# Altium footprint library Table Clock.PcbLib: 28 footprints (part 2 of 2)
Each footprint in its own frame and in the unit in brackets; x right, y up, seen from the top. Pads: shape width x height; smd on the part's side, far side on the other; paste and mask are expansions set on the pad; w line width, h text height; cw(c..) or ccw(c..) is an arc to the next point about the centre after c.
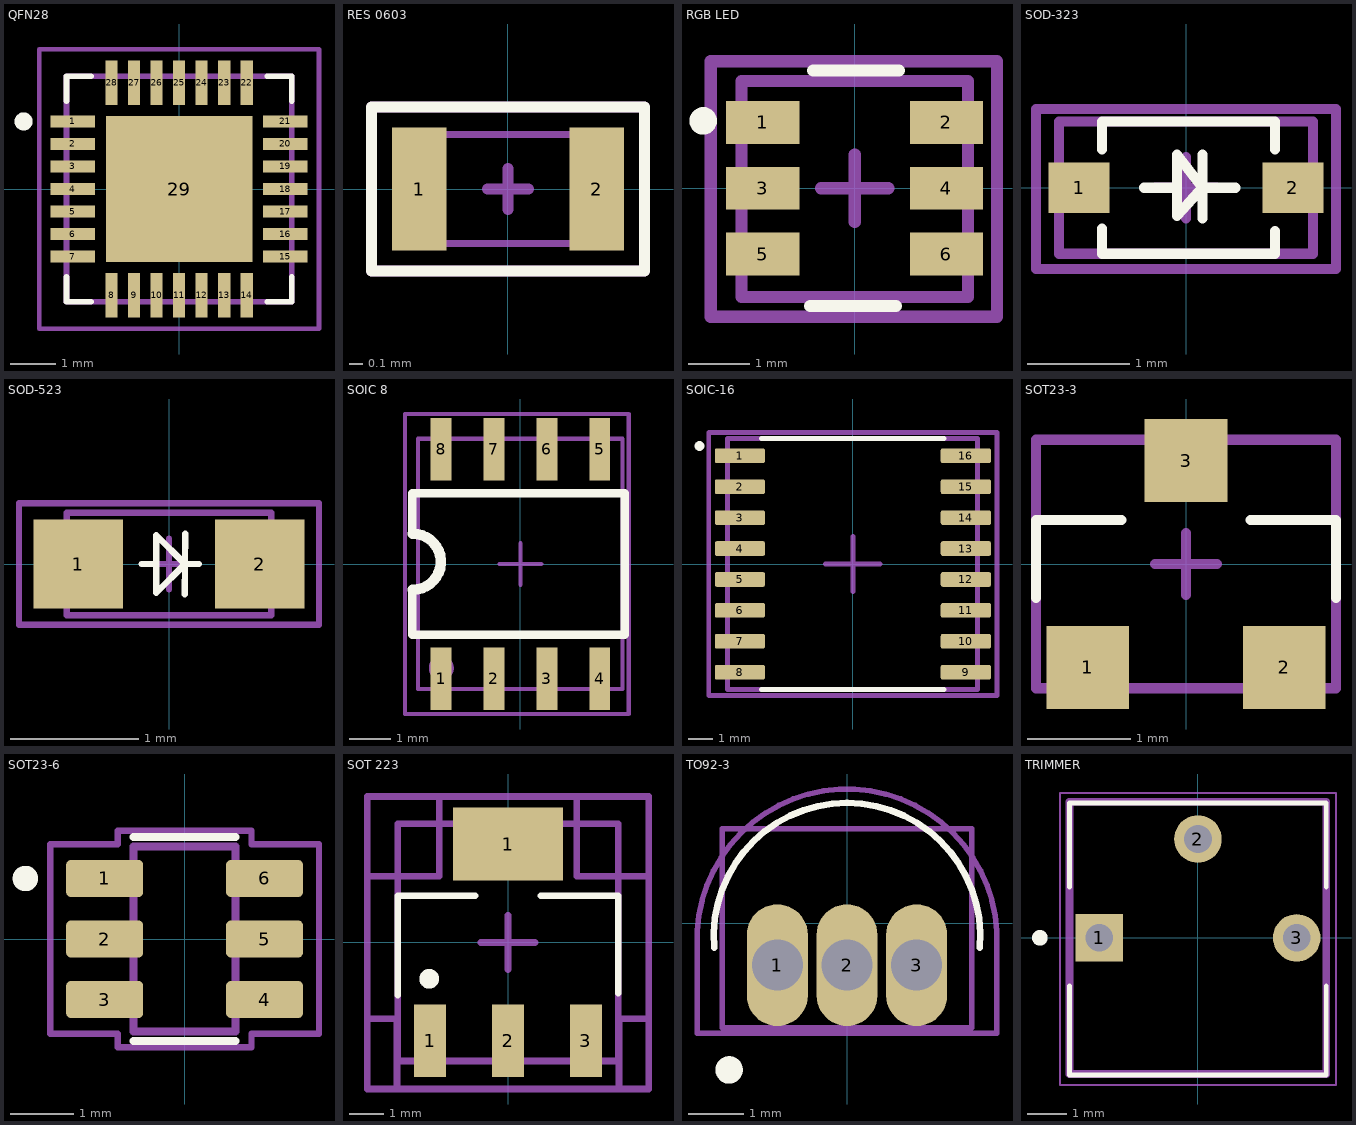
[diagram p1: the footprints below, top view; thin cyan lines are the x and y axes]

## QFN28 [mm]
pads (29):
  rect 0.99x0.27 smd: 1(-2.36,1.5) 2(-2.36,1) 3(-2.36,0.5) 4(-2.36,0) 5(-2.36,-0.5) 6(-2.36,-1) 7(-2.36,-1.5) 15(2.36,-1.5) 16(2.36,-1) 17(2.36,-0.5) 18(2.36,0) 19(2.36,0.5) 20(2.36,1) 21(2.36,1.5)
  rect 0.27x0.99 smd: 8(-1.5,-2.36) 9(-1,-2.36) 10(-0.5,-2.36) 11(0,-2.36) 12(0.5,-2.36) 13(1,-2.36) 14(1.5,-2.36) 22(1.5,2.36) 23(1,2.36) 24(0.5,2.36) 25(0,2.36) 26(-0.5,2.36) 27(-1,2.36) 28(-1.5,2.36)
  rect 3.25x3.25 smd paste-0.597: 29(0,0)
Top Overlay:
  circle w0.2: c-3.455,1.5 r0.1
  lines w0.127: -2.5,-1.955 -2.5,-2.5 -1.955,-2.5 ; -2.5,1.955 -2.5,2.5 -1.955,2.5 ; 1.955,-2.5 2.5,-2.5 2.5,-1.955 ; 1.955,2.5 2.5,2.5 2.5,1.955
Top 3D Body:
  lines w0.127: -2.5,-2.5 -2.5,2.5 2.5,2.5 2.5,-2.5 -2.5,-2.5
Top Component Center:
  lines w0.1: -3.105,-3.105 3.105,-3.105 3.105,3.105 -3.105,3.105 -3.105,-3.105
Top Designator:
  lines w0.1: -3.105,-3.105 3.105,-3.105 3.105,3.105 -3.105,3.105 -3.105,-3.105
  text ".Designator" at -0.725,-0.717 h1
3D body "step_temp.STEP": height 0.77, standoff -0.03, extent -2.5,-2.5 2.5,2.5

## RES 0603 [mm]
pads (2):
  rect 0.4x0.9 smd mask+0.05: 1(-0.65,0) 2(0.65,0)
Top Overlay:
  lines w0.08: -1,-0.6 1,-0.6 1,0.6 -1,0.6 -1,-0.6
Top 3D Body:
  lines w0.05: -0.8,-0.4 -0.8,0.4 0.8,0.4 0.8,-0.4 -0.8,-0.4
Top Component Center:
  lines w0.08: -0.15,0 0,0 ; 0,-0.15 0,0 ; 0,0.15 0,0 ; 0.15,0 0,0 ; -1,-0.6 1,-0.6 1,0.6 -1,0.6 -1,-0.6
Top Designator:
  lines w0.08: -1,-0.6 -1,0.6 1,0.6 1,-0.6 -1,-0.6
  text ".Designator" at -0.27,-0.27 h0.6
3D body "RC0603FR-0747KL.step": height 0.55, standoff 0, extent -0.8,-0.4 0.8,0.4

## RGB LED [mm]
pads (6):
  rect 1.2x0.7 smd mask+0.05: 1(-1.5,1.075) 2(1.5,1.075) 3(-1.5,0) 4(1.5,0) 5(-1.5,-1.075) 6(1.5,-1.075)
Top Overlay:
  circle w0.25: c-2.475,1.1 r0.1
  lines w0.2: -0.725,-1.925 0.675,-1.925 ; -0.675,1.925 0.725,1.925
Top 3D Body:
  lines w0.2: -1.85,-1.775 -1.85,1.75 1.85,1.75 1.85,-1.775 -1.85,-1.775
Top Component Center:
  lines w0.2: -0.55,0 0,0 ; 0,-0.55 0,0 ; 0,0.55 0,0 ; 0.55,0 0,0 ; 2.3,-2.1 ccw(c2.3,-2.075) 2.325,-2.075 ; -2.35,-2.1 2.325,-2.1 2.325,2.075 -2.35,2.075 -2.35,-2.1
Top Designator:
  lines w0.2: 2.3,-2.1 ccw(c2.3,-2.075) 2.325,-2.075 ; -2.35,-2.1 -2.35,2.075 2.325,2.075 2.325,-2.1 -2.35,-2.1
  text ".Designator" at -0.325,-0.775 h1.5
3D body "Download_STP_150353M153300_rev1.stp": height 2.8, standoff 0, extent -1.85,-1.75 1.85,1.75

## SOD-323 [mm]
pads (2):
  rect 0.6x0.5 smd mask+0.05: 1(-1.05,0) 2(1.05,0)
Top Overlay:
  lines w0.1: -0.825,-0.4 -0.825,-0.65 0.875,-0.65 0.875,-0.425 ; -0.825,0.375 -0.825,0.65 0.875,0.65 0.875,0.375 ; -0.413,0 -0.088,0 ; 0.487,0 0.162,0 ; -0.088,0 -0.088,0.325 0.162,0 ; -0.088,0 -0.088,-0.275 0.162,0 ; 0.162,0 0.162,0.325 0.162,0 ; 0.162,0 0.162,-0.3 0.162,0
Top 3D Body:
  lines w0.1: -1.25,-0.65 -1.25,0.65 1.25,0.65 1.25,-0.65 -1.25,-0.65
Top Component Center:
  lines w0.1: -0.3,0 0,0 ; 0,-0.3 0,0 ; 0,0.3 0,0 ; 0.3,0 0,0 ; -1.475,-0.8 1.475,-0.8 1.475,0.775 -1.475,0.775 -1.475,-0.8
Top Designator:
  lines w0.1: -1.475,-0.8 1.475,-0.8 1.475,0.775 -1.475,0.775 -1.475,-0.8
  text ".Designator" at -0.525,-0.467 h1
3D body "BAT760-7.step": height 1.2, standoff 0, extent -1.25,-0.65 1.25,0.65

## SOD-523 [mm]
pads (2):
  rect 0.7x0.7 smd mask+0.05: 1(-0.71,0) 2(0.71,0)
Top Overlay:
  lines w0.05: -0.215,0 -0.1,0 ; 0.124,-0.236 0.125,0 ; 0.126,0.236 0.125,0 ; 0.233,0 0.125,0 ; -0.1,0 -0.1,0.225 0.125,0 ; -0.1,0 -0.1,-0.225 0.125,0
Top 3D Body:
  lines w0.05: -0.8,-0.4 0.8,-0.4 0.8,0.4 -0.8,0.4 -0.8,-0.4
Top Component Center:
  lines w0.05: -0.2,0 0,0 ; 0,-0.2 0,0 ; 0,0.2 0,0 ; 0.2,0 0,0 ; -1.175,-0.475 -1.175,0.475 1.175,0.475 1.175,-0.475 -1.175,-0.475
Top Designator:
  lines w0.05: -1.175,-0.475 -1.175,0.475 1.175,0.475 1.175,-0.475 -1.175,-0.475
  text ".Designator" at -0.425,-0.275 h0.6
3D body "User Library-SOD-523F.STEP": height 0.7, standoff 0, extent -0.8,-0.399 0.8,0.399

## SOIC 8 [mm]
pads (8):
  rect 0.5x1.5 smd mask+0.05: 1(-1.905,-2.75) 2(-0.635,-2.75) 3(0.635,-2.75) 4(1.905,-2.75) 5(1.905,2.75) 6(0.635,2.75) 7(-0.635,2.75) 8(-1.905,2.75)
Top Overlay:
  lines w0.2: -2.6,-0.6 -2.6,-0.9 -2.6,-1.7 2.5,-1.7 2.5,1.7 2.4,1.7 1,1.7 -1,1.7 -2.6,1.7 -2.6,0.742
  lines w0.254: -2.581,-0.616 ccw(c-2.581,0.055) -2.581,0.726
Bottom Designator (Mech7):
  lines w0.1: -0.5,0 0,0 ; 0,0.5 0,-0.5 0,0 ; 0.5,0 0,0 ; -2.767,-3.6 -2.767,-1.833 -2.767,1.785 -2.767,3.6 -2.7,3.6 -1.9,3.6 0.9,3.6 2.6,3.6 2.6,-3.6 -2.767,-3.6
Bottom 3D Body (Mech8):
  lines w0.1: -2.767,-3.6 2.6,-3.6 2.6,3.6 0.9,3.6 -1.9,3.6 -2.7,3.6 -2.767,3.6 -2.767,1.785 -2.767,-1.833 -2.767,-3.6
  text ".Designator" at 0.238,-1.746 h1.52
Mechanical 13:
  circle w0.4: c-1.9,-2.5 r0.1
  lines w0.1: -2.459,3.006 -2.459,-2.997 2.4,-2.997 2.4,-3 2.448,-3 2.448,3.006 -2.452,3.006
3D body "User Library-SOIC-8-1.step": height 1.75, standoff 0, extent -2.45,-3 2.45,3

## SOIC-16 [mm]
pads (16):
  rrect25% 2.06x0.6 smd: 1(-4.64,4.445) 2(-4.64,3.175) 3(-4.64,1.905) 4(-4.64,0.635) 5(-4.64,-0.635) 6(-4.64,-1.905) 7(-4.64,-3.175) 8(-4.64,-4.445) 9(4.64,-4.445) 10(4.64,-3.175) 11(4.64,-1.905) 12(4.64,-0.635) 13(4.64,0.635) 14(4.64,1.905) 15(4.64,3.175) 16(4.64,4.445)
Top Overlay:
  circle w0.2: c-6.3,4.845 r0.1
  lines w0.2: -3.75,-5.15 3.75,-5.15 ; -3.75,5.15 3.75,5.15
Top 3D Body:
  lines w0.2: -5.15,-5.15 5.125,-5.15 5.125,5.15 -5.15,5.15 -5.15,-5.15
Top Component Center:
  lines w0.2: -1.125,0 0,0 ; 0,-1.125 0,0 ; 0,1.125 0,0 ; 1.125,0 0,0 ; -5.92,-5.4 5.92,-5.4 5.92,5.4 -5.92,5.4 -5.92,-5.4
Top Designator:
  lines w0.2: -5.92,-5.4 5.92,-5.4 5.92,5.4 -5.92,5.4 -5.92,-5.4
  text ".Designator" at 0.4,-0.267 h1
3D body "step_temp.STEP": height 2.65, standoff 0, extent -5.15,-5.15 5.15,5.15

## SOT23-3 [mm]
pads (3):
  rect 0.8x0.8 smd mask+0.05: 1(-0.95,-1) 2(0.95,-1) 3(0,1)
Top Overlay:
  lines w0.1: -1.45,-0.325 -1.45,0.425 -0.625,0.425 ; 0.625,0.425 1.45,0.425 1.45,-0.325
Top 3D Body:
  lines w0.1: -1.45,-1.2 -1.45,1.2 1.45,1.2 1.45,-1.2 -1.45,-1.2
Top Component Center:
  lines w0.1: -0.3,0 0,0 ; 0,-0.3 0,0 ; 0,0.3 0,0 ; 0.3,0 0,0 ; -1.45,-1.2 -1.45,1.2 1.45,1.2 1.45,-1.2 -1.45,-1.2
Top Designator:
  lines w0.1: -1.45,-1.2 -1.45,1.2 1.45,1.2 1.45,-1.2 -1.45,-1.2
  text ".Designator" at -0.225,-0.275 h0.6
3D body "MMBT3904-7-F.STEP": height 1.12, standoff 0, extent -1.5,-1.21 1.5,1.21

## SOT23-6 [mm]
pads (6):
  rrect25% 1.21x0.58 smd: 1(-1.255,0.95) 2(-1.255,0) 3(-1.255,-0.95) 4(1.255,-0.95) 5(1.255,0) 6(1.255,0.95)
Top Overlay:
  circle w0.2: c-2.5,0.95 r0.1
  lines w0.127: -0.8,-1.6 0.8,-1.6 ; -0.8,1.6 0.8,1.6
Top 3D Body:
  lines w0.127: -0.8,-1.45 0.8,-1.45 0.8,1.45 -0.8,1.45 -0.8,-1.45
Top Component Center:
  lines w0.1: -2.11,-1.49 -1.05,-1.49 -1.05,-1.7 1.05,-1.7 1.05,-1.49 2.11,-1.49 2.11,1.49 1.05,1.49 1.05,1.7 -1.05,1.7 -1.05,1.49 -2.11,1.49 -2.11,-1.49
Top Designator:
  lines w0.1: -2.11,-1.49 -1.05,-1.49 -1.05,-1.7 1.05,-1.7 1.05,-1.49 2.11,-1.49 2.11,1.49 1.05,1.49 1.05,1.7 -1.05,1.7 -1.05,1.49 -2.11,1.49 -2.11,-1.49
3D body "step_temp.STEP": height 1.45, standoff 0, extent -1.4,-1.45 1.4,1.45

## SOT 223 [mm]
pads (4):
  rect 0.95x2.15 smd mask+0.102: 1(-2.3,-2.9) 2(0,-2.9) 3(2.3,-2.9)
  rect 3.25x2.15 smd mask+0.102: 1(0,2.9)
Top Overlay:
  circle w0.4: c-2.325,-1.075 r0.09
  lines w0.2: -3.25,-1.55 -3.25,1.375 -0.975,1.375 ; 0.975,1.375 3.25,1.375 3.25,-1.5
Top 3D Body:
  lines w0.2: -3.25,-3.5 3.25,-3.5 3.25,3.5 -3.25,3.5 -3.25,-3.5
Top Component Center:
  lines w0.2: -0.802,-0.006 -0.002,-0.006 ; 0,-0.8 0,0 ; 0,0.8 0,0 ; 0.8,0 0,0 ; -4.15,-2.25 -3.275,-2.25 -3.275,-4.325 3.275,-4.325 3.275,-2.25 4.15,-2.25 4.15,1.95 2.025,1.95 2.025,4.3 -2.025,4.3 -2.025,1.95 -4.15,1.95 -4.15,-2.25
Top Designator:
  lines w0.2: -4.15,-4.325 4.15,-4.325 4.15,4.3 2.025,4.3 -4.15,4.3 -4.15,-4.325
  text ".Designator" at -0.4,-0.808 h1.4
3D body "AMS1117-3.3.STEP": height 1.8, standoff 0, extent -3.251,-3.499 3.251,3.499

## TO92-3 [mm]
pads (3):
  oval 1.11x2.22 hole 0.93: 1(-1.27,-0.76) 2(0,-0.76) 3(1.27,-0.76)
Top Overlay:
  circle w0.25: c-2.15,-2.67 r0.125
  lines w0.12: -2.421,-0.444 cw(c0,-0.232) 2.421,-0.444
Top 3D Body:
  lines w0.1: -2.275,-1.9 -2.275,1.725 2.275,1.725 2.275,-1.9 -2.275,-1.9
Top Component Center:
  lines w0.1: -2.731,-0.426 cw(c0,-0.283) 2.731,-0.426 ; -2.73,-0.45 -2.73,-2 2.73,-2 2.73,-0.45
Top Designator:
  lines w0.1: -2.731,-0.426 cw(c0,-0.283) 2.731,-0.426 ; -2.73,-0.45 -2.73,-2 2.73,-2 2.73,-0.45
  text ".Designator" at -0.35,-0.45 h1.5
3D body "step_temp.STEP": height 7.45, standoff -13, extent -2.277,-1.92 2.277,1.7

## TRIMMER [mm]
pads (3):
  rect 1.222x1.222 hole 0.714: 1(-2.54,0)
  round 1.222 hole 0.714: 2(0,2.54) 3(2.54,0)
Top Overlay:
  circle w0.2: c-4.064,0 r0.1
  lines w0.127: -3.3,-3.53 3.3,-3.53 ; -3.3,-3.52 -3.3,-1.235 ; -3.3,1.305 -3.3,3.47 3.3,3.47 3.3,1.305 ; 3.3,-3.52 3.3,-1.235
Top 3D Body:
  lines w0.2: -3.3,-3.5 3.3,-3.5 3.3,3.5 -3.3,3.5 -3.3,-3.5
Top Component Center:
  lines w0.05: -3.55,-3.78 -3.55,3.72 3.55,3.72 3.55,-3.78 -3.55,-3.78
Top Designator:
  lines w0.05: -3.55,-3.78 -3.55,3.72 3.55,3.72 3.55,-3.78 -3.55,-3.78
  text ".Designator" at 0.4,-0.717 h1
3D body "3362P-1-102LF.step": height 4.88, standoff -5.84, extent -3.3,-3.495 3.3,3.495